# EAGLE library part XR-2902Q (library exar)
MICROCONTROLLER
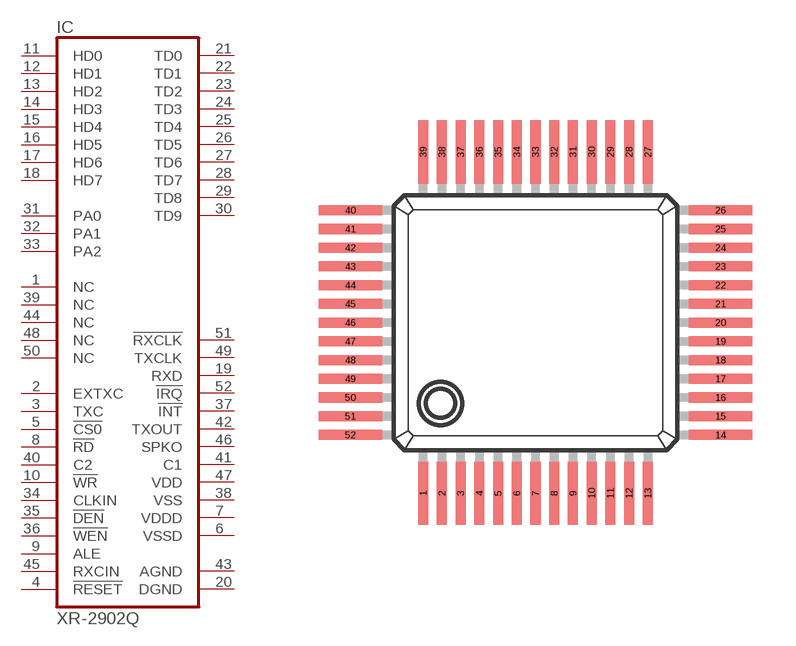
[diagram p74: symbol with the pads of QFP-52; footprint QFP-52]

Designator prefix IC

## XR-2902Q (OC_FARNELL: unknown; OC_NEWARK: unknown)  [QFP-52]
1  NC  nc
2  EXTXC  in
3  TXC  in
4  !RESET  in
5  !CS0  in
6  VSSD  pwr
7  VDDD  pwr
8  !RD  in
9  ALE  in
10  !WR  in
11  HD0
12  HD1
13  HD2
14  HD3
15  HD4
16  HD5
17  HD6
18  HD7
19  RXD  out
20  DGND  pwr
21  TD0
22  TD1
23  TD2
24  TD3
25  TD4
26  TD5
27  TD6
28  TD7
29  TD8
30  TD9
31  PA0
32  PA1
33  PA2
34  CLKIN  in
35  !DEN  in
36  !WEN  in
37  !INT  out
38  VSS  pwr
39  NC  nc
40  C2  in
41  C1  out
42  TXOUT  out
43  AGND  pwr
44  NC  nc
45  RXCIN  in
46  SPKO  out
47  VDD  pwr
48  NC  nc
49  TXCLK  out
50  NC  nc
51  !RXCLK  out
52  !IRQ  out

## Footprint QFP-52 (pad centres in mm)
Quad Flat Package
smd 0.35 x 2.2: 1 -3.575,-6.25; 2 -2.925,-6.25; 3 -2.275,-6.25; 4 -1.625,-6.25; 5 -0.975,-6.25; 6 -0.325,-6.25; 7 0.325,-6.25; 8 0.975,-6.25; 9 1.625,-6.25; 10 2.275,-6.25; 11 2.925,-6.25; 12 3.575,-6.25; 13 4.225,-6.25; 27 4.225,5.6; 28 3.575,5.6; 29 2.925,5.6; 30 2.275,5.6; 31 1.625,5.6; 32 0.975,5.6; 33 0.325,5.6; 34 -0.325,5.6; 35 -0.975,5.6; 36 -1.625,5.6; 37 -2.275,5.6; 38 -2.925,5.6; 39 -3.575,5.6
smd 2.2 x 0.35: 14 6.75,-4.225; 15 6.75,-3.575; 16 6.75,-2.925; 17 6.75,-2.275; 18 6.75,-1.625; 19 6.75,-0.975; 20 6.75,-0.325; 21 6.75,0.325; 22 6.75,0.975; 23 6.75,1.625; 24 6.75,2.275; 25 6.75,2.925; 26 6.75,3.575; 40 -6.1,3.575; 41 -6.1,2.925; 42 -6.1,2.275; 43 -6.1,1.625; 44 -6.1,0.975; 45 -6.1,0.325; 46 -6.1,-0.325; 47 -6.1,-0.975; 48 -6.1,-1.625; 49 -6.1,-2.275; 50 -6.1,-2.925; 51 -6.1,-3.575; 52 -6.1,-4.225